# Altium schematic symbol library NFET_Dual.Schlib: 1 symbol
Pins are listed as number, name and electrical type; pins without a type are passive.

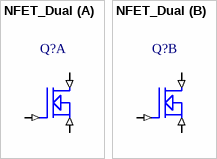
[diagram p0: symbol NFET_Dual]

## NFET_Dual
designator Q?
MOSFET, N, Dual
part A pins: 1 SOURCE (in), 2 GATE (in), 6 DRAIN (in)
part B pins: 3 DRAIN (in), 4 SOURCE (in), 5 GATE (in)